# Altium footprint library DAC7634E.PcbLib: 3 footprints
Each footprint in its own frame and in the unit in brackets; x right, y up, seen from the top. Pads: shape width x height; smd on the part's side, far side on the other; paste and mask are expansions set on the pad; w line width, h text height; cw(c..) or ccw(c..) is an arc to the next point about the centre after c.
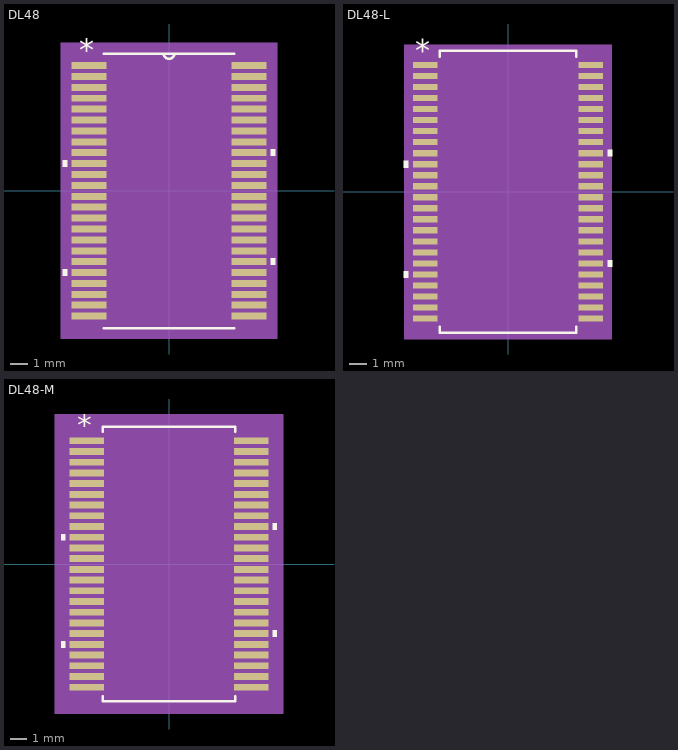
[diagram p0: the footprints below, top view; thin cyan lines are the x and y axes]

## DL48 [mil]
pads (48):
  rect 80.5x16 smd: 1(-183.75,287.5) 2(-183.75,262.5) 3(-183.75,237.5) 4(-183.75,212.5) 5(-183.75,187.5) 6(-183.75,162.5) 7(-183.75,137.5) 8(-183.75,112.5) 9(-183.75,87.5) 10(-183.75,62.5) 11(-183.75,37.5) 12(-183.75,12.5) 13(-183.75,-12.5) 14(-183.75,-37.5) 15(-183.75,-62.5) 16(-183.75,-87.5) 17(-183.75,-112.5) 18(-183.75,-137.5) 19(-183.75,-162.5) 20(-183.75,-187.5) 21(-183.75,-212.5) 22(-183.75,-237.5) 23(-183.75,-262.5) 24(-183.75,-287.5) 25(183.75,-287.5) 26(183.75,-262.5) 27(183.75,-237.5) 28(183.75,-212.5) 29(183.75,-187.5) 30(183.75,-162.5) 31(183.75,-137.5) 32(183.75,-112.5) 33(183.75,-87.5) 34(183.75,-62.5) 35(183.75,-37.5) 36(183.75,-12.5) 37(183.75,12.5) 38(183.75,37.5) 39(183.75,62.5) 40(183.75,87.5) 41(183.75,112.5) 42(183.75,137.5) 43(183.75,162.5) 44(183.75,187.5) 45(183.75,212.5) 46(183.75,237.5) 47(183.75,262.5) 48(183.75,287.5)
Top Overlay:
  region: 234,95 244,95 244,80 234,80
  region: 234,-155 244,-155 244,-170 234,-170
  region: -234,-180 -244,-180 -244,-195 -234,-195
  region: -234,70 -244,70 -244,55 -234,55
  lines w6: -149.5,-315 149.5,-315 ; -149.5,315 149.5,315 ; -12,315 ccw(c0,315) 12,315
  text "*" at -206.25,298.5 h50
Mechanical 5:
  region: 249,-340 -249,-340 -249,340 249,340
Mechanical 13:
  drawing of 197 lines, arcs and shapes, not listed
  text "*" at -206.25,298.5 h50
Mechanical 15:
  region: 234,-325 -234,-325 -234,325 234,325
  lines w6: -234,-325 234,-325 234,325 -234,325 -234,-325
3D body "DL48.step": height 110.12, standoff 0, extent -210,-315 210,315

## DL48-L [mil]
pads (48):
  rect 56x14 smd paste+0 mask+0: 1(-188,287.5) 2(-188,262.5) 3(-188,237.5) 4(-188,212.5) 5(-188,187.5) 6(-188,162.5) 7(-188,137.5) 8(-188,112.5) 9(-188,87.5) 10(-188,62.5) 11(-188,37.5) 12(-188,12.5) 13(-188,-12.5) 14(-188,-37.5) 15(-188,-62.5) 16(-188,-87.5) 17(-188,-112.5) 18(-188,-137.5) 19(-188,-162.5) 20(-188,-187.5) 21(-188,-212.5) 22(-188,-237.5) 23(-188,-262.5) 24(-188,-287.5) 25(188,-287.5) 26(188,-262.5) 27(188,-237.5) 28(188,-212.5) 29(188,-187.5) 30(188,-162.5) 31(188,-137.5) 32(188,-112.5) 33(188,-87.5) 34(188,-62.5) 35(188,-37.5) 36(188,-12.5) 37(188,12.5) 38(188,37.5) 39(188,62.5) 40(188,87.5) 41(188,112.5) 42(188,137.5) 43(188,162.5) 44(188,187.5) 45(188,212.5) 46(188,237.5) 47(188,262.5) 48(188,287.5)
Top Overlay:
  region: -226,70 -236,70 -236,55 -226,55
  region: -226,-180 -236,-180 -236,-195 -226,-195
  region: 226,-155 236,-155 236,-170 226,-170
  region: 226,95 236,95 236,80 226,80
  lines w6: -154.5,-306.39 -154.5,-320 154.5,-320 154.5,-306.39 ; -154.5,306.39 -154.5,320 154.5,320 154.5,306.39
  text "*" at -210.5,296.5 h50
Mechanical 5:
  region: 235,-334 -235,-334 -235,334 235,334
Mechanical 13:
  drawing of 197 lines, arcs and shapes, not listed
  text "*" at -147,262 h50
Mechanical 15:
  region: -153.5,-298.5 -220,-298.5 -220,298.5 -153.5,298.5 -153.5,319 153.5,319 153.5,298.5 220,298.5 220,-298.5 153.5,-298.5 153.5,-319 -153.5,-319
  lines w6: -220,-298.5 -220,298.5 -153.5,298.5 -153.5,319 153.5,319 153.5,298.5 220,298.5 220,-298.5 153.5,-298.5 153.5,-319 -153.5,-319 -153.5,-298.5 -220,-298.5
3D body "DL48.step": height 110.12, standoff 0, extent -210,-315 210,315

## DL48-M [mil]
pads (48):
  rect 80x16 smd paste+0 mask+0: 1(-192,287.5) 2(-192,262.5) 3(-192,237.5) 4(-192,212.5) 5(-192,187.5) 6(-192,162.5) 7(-192,137.5) 8(-192,112.5) 9(-192,87.5) 10(-192,62.5) 11(-192,37.5) 12(-192,12.5) 13(-192,-12.5) 14(-192,-37.5) 15(-192,-62.5) 16(-192,-87.5) 17(-192,-112.5) 18(-192,-137.5) 19(-192,-162.5) 20(-192,-187.5) 21(-192,-212.5) 22(-192,-237.5) 23(-192,-262.5) 24(-192,-287.5) 25(192,-287.5) 26(192,-262.5) 27(192,-237.5) 28(192,-212.5) 29(192,-187.5) 30(192,-162.5) 31(192,-137.5) 32(192,-112.5) 33(192,-87.5) 34(192,-62.5) 35(192,-37.5) 36(192,-12.5) 37(192,12.5) 38(192,37.5) 39(192,62.5) 40(192,87.5) 41(192,112.5) 42(192,137.5) 43(192,162.5) 44(192,187.5) 45(192,212.5) 46(192,237.5) 47(192,262.5) 48(192,287.5)
Top Overlay:
  region: -242,70 -252,70 -252,55 -242,55
  region: -242,-180 -252,-180 -252,-195 -242,-195
  region: 242,-155 252,-155 252,-170 242,-170
  region: 242,95 252,95 252,80 242,80
  lines w6: -154.5,-308.6 -154.5,-320 154.5,-320 154.5,-308.6 ; -154.5,308.6 -154.5,320 154.5,320 154.5,308.6
  text "*" at -214.5,298.5 h50
Mechanical 5:
  region: 267,-350 -267,-350 -267,350 267,350
Mechanical 13:
  drawing of 197 lines, arcs and shapes, not listed
  text "*" at -147,262 h50
Mechanical 15:
  region: -169.5,-315.5 -252,-315.5 -252,315.5 -169.5,315.5 -169.5,335 169.5,335 169.5,315.5 252,315.5 252,-315.5 169.5,-315.5 169.5,-335 -169.5,-335
  lines w6: -252,-315.5 -252,315.5 -169.5,315.5 -169.5,335 169.5,335 169.5,315.5 252,315.5 252,-315.5 169.5,-315.5 169.5,-335 -169.5,-335 -169.5,-315.5 -252,-315.5
3D body "DL48.step": height 110.12, standoff 0, extent -210,-315 210,315